# Altium footprint library TFT_SPI_480x320_V1.1.PcbLib: 1 footprints
Each footprint in its own frame and in the unit in brackets; x right, y up, seen from the top. Pads: shape width x height; smd on the part's side, far side on the other; paste and mask are expansions set on the pad; w line width, h text height; cw(c..) or ccw(c..) is an arc to the next point about the centre after c.
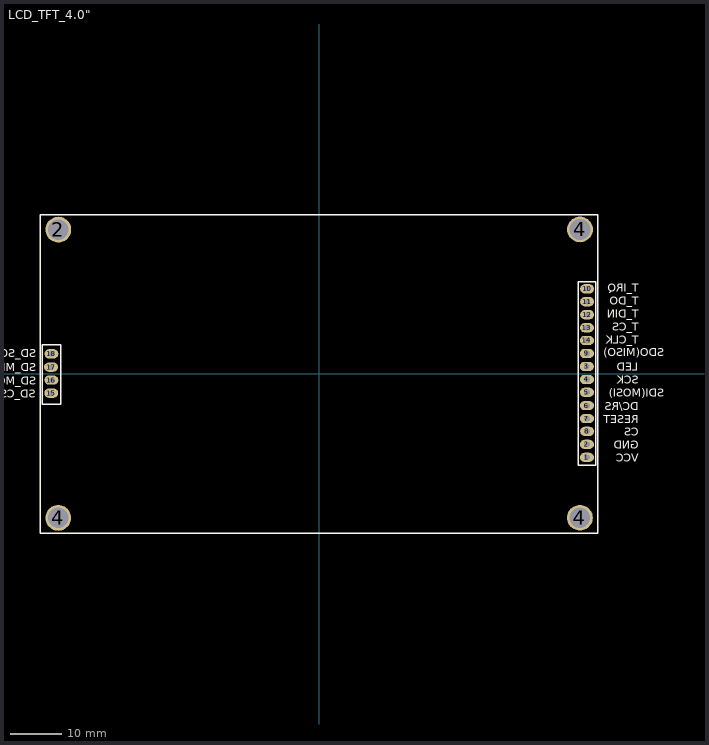
[diagram p0: the footprint, top view; thin cyan lines are the x and y axes]

## LCD_TFT_4.0" [mm]
pads (22):
  oval 2.7x1.8 hole 1.1: 1(52,-16.25) 2(52,-13.725) 3(51.975,1.4) 4(52,-1.125) 5(52,-3.625) 6(52,-6.2) 7(52,-8.725) 8(52.025,-11.2) 9(52,3.925) 10(52.025,16.475) 11(52.025,13.975) 12(52.025,11.45) 13(52,8.925) 14(52,6.45) 15(-52,-3.775) 16(-51.975,-1.25) 17(-52.047,1.271) 18(-51.975,3.85)
  round 5 hole 4: 2(-50.625,27.975) 4(-50.65,-28) 4(50.625,-27.975) 4(50.65,28)
Top Overlay:
  lines w0.254: -54.102,-30.988 54.102,-30.988 54.102,30.861 -54.102,30.861 -54.102,-30.988 ; -53.75,-5.9 -50.15,-5.9 -50.15,5.6 -53.75,5.6 -53.75,-5.9 ; 50.35,-17.825 53.675,-17.825 53.675,17.825 50.35,17.825 50.35,-17.825
  text "SD_SCK" at -54.879,3.183 h1.52
  text "SD_MISO" at -54.879,0.458 h1.52
  text "SD_MOSI" at -54.929,-2.117 h1.52
  text "SD_CS" at -55.004,-4.667 h1.52
  text "T_IRQ" at 62.046,15.858 h1.52
  text "T_DO" at 62.046,13.358 h1.52
  text "T_DIN" at 62.046,10.833 h1.52
  text "T_CS" at 62.021,8.308 h1.52
  text "T_CLK" at 62.021,5.833 h1.52
  text "SDO(MISO)" at 67.021,3.354 h1.52
  text "LED" at 61.996,0.529 h1.52
  text "SCK" at 62.021,-1.996 h1.52
  text "SDI(MOSI)" at 66.971,-4.446 h1.52
  text "DC/RS" at 62.021,-7.071 h1.52
  text "RESET" at 62.021,-9.596 h1.52
  text "CS" at 62.046,-12.071 h1.52
  text "GND" at 62.021,-14.596 h1.52
  text "VCC" at 62.021,-17.121 h1.52
Bottom Overlay:
  text "SD_SCK" at -63.346,3.208 h1.52
  text "SD_MISO" at -64.496,0.758 h1.52
  text "SD_MOSI" at -64.071,-1.742 h1.52
  text "SD_CS" at -61.671,-4.392 h1.52
  text "VCC" at 55.979,-17.021 h1.52
  text "GND" at 55.979,-14.496 h1.52
  text "CS" at 56.004,-11.971 h1.52
  text "RESET" at 55.979,-9.496 h1.52
  text "DC/RS" at 55.979,-6.971 h1.52
  text "SDI(MOSI)" at 55.804,-4.421 h1.52
  text "SCK" at 55.979,-1.896 h1.52
  text "LED" at 55.954,0.629 h1.52
  text "SDO(MISO)" at 55.929,3.204 h1.52
  text "T_CLK" at 55.979,5.933 h1.52
  text "T_CS" at 55.979,8.408 h1.52
  text "T_DIN" at 56.004,10.933 h1.52
  text "T_DO" at 56.004,13.458 h1.52
  text "T_IRQ" at 56.004,15.958 h1.52
3D body "4.0'' TFT SPI 480x320 Display Assembly.STEP": height 11.9, standoff -2.34, extent -54,-30.875 54,30.875